# Altium integrated library LMR62014XMF_NOPB.IntLib: 1 symbol
Pins are listed as number, name and electrical type; pins without a type are passive.

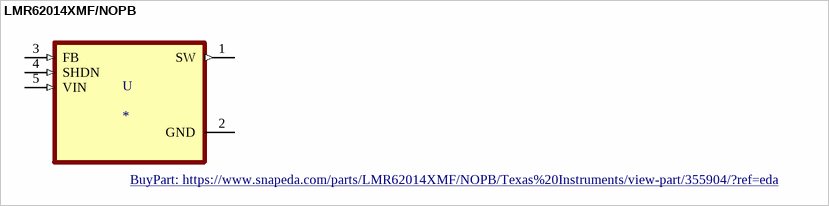
[diagram p0: symbol LMR62014XMF/NOPB]

## LMR62014XMF/NOPB
designator U
SIMPLE SWITCHER&reg; 2.7V to 14V, 1.4A Step-Up Regulator in SOT-23 Package 5-SOT-23 -40 to 125; MF: Texas Instruments; MP: LMR62014XMF/NOPB; SnapEDA_Link: https://www.snapeda.com/parts/LMR62014XMF/NOPB/Texas%20Instruments/view-part/355904/?ref=snap; Price: None; Package: SOT-23-5 Texas Instruments; Value: *; Texas_Instruments-Purchase-URL: https://snapeda.com/shop?store=Texas+Instruments&id=355904; Availability: Unavailable; BuyPart: https://www.snapeda.com/parts/LMR62014XMF/NOPB/Texas%20Instruments/view-part/355904/?ref=eda
footprint SOT95P280X145-5N
pins: 1 SW (out), 2 GND (power), 3 FB (in), 4 SHDN (in), 5 VIN (in)